# EAGLE library part TLC59108 (library TLC59108)
8-Bit Fast Mode Plus (FM+) I2C Bus Constant-Current LED Sink Driver
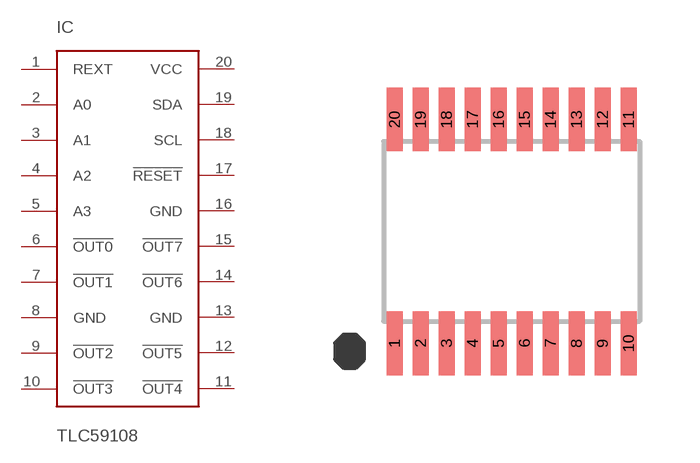
[diagram p0: symbol with the pads of TSSOP20; footprint TSSOP20]

Designator prefix IC

## TLC59108  [TSSOP20]
1  REXT
2  A0
3  A1
4  A2
5  A3
6  !OUT0
7  !OUT1
8  GND
9  !OUT2
10  !OUT3
11  !OUT4
12  !OUT5
13  GND
14  !OUT6
15  !OUT7
16  GND
17  !RESET
18  SCL
19  SDA
20  VCC

## Footprint TSSOP20 (pad centres in mm)
smd 0.4 x 1.6: 1 -2.925,-2.8; 2 -2.275,-2.8; 3 -1.625,-2.8; 4 -0.975,-2.8; 5 -0.325,-2.8; 6 0.325,-2.8; 7 0.975,-2.8; 8 1.625,-2.8; 9 2.275,-2.8; 10 2.925,-2.8; 11 2.925,2.8; 12 2.275,2.8; 13 1.625,2.8; 14 0.975,2.8; 15 0.325,2.8; 16 -0.325,2.8; 17 -0.975,2.8; 18 -1.625,2.8; 19 -2.275,2.8; 20 -2.925,2.8